# Altium footprint library SnapEDApcb.PcbLib: 1 footprints
Each footprint in its own frame and in the unit in brackets; x right, y up, seen from the top. Pads: shape width x height; smd on the part's side, far side on the other; paste and mask are expansions set on the pad; w line width, h text height; cw(c..) or ccw(c..) is an arc to the next point about the centre after c.
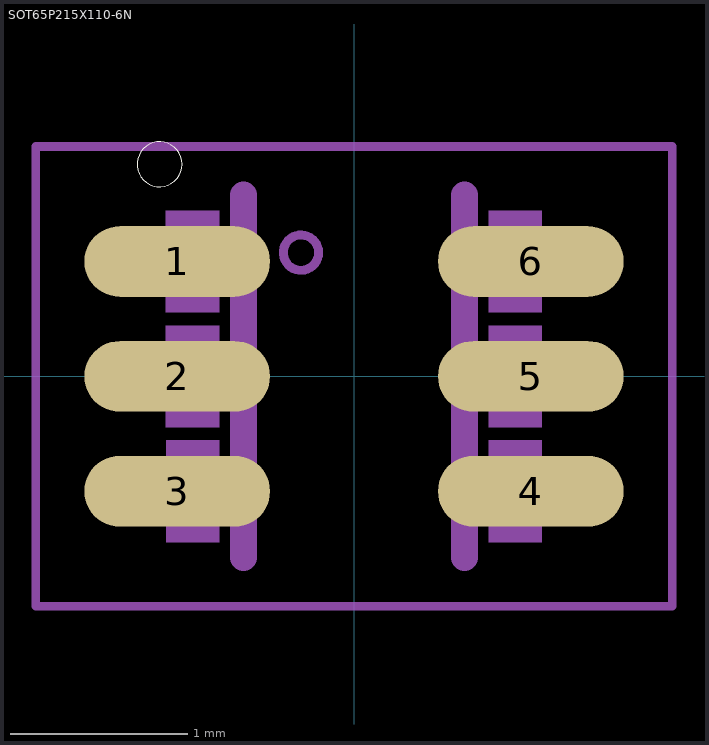
[diagram p0: the footprint, top view; thin cyan lines are the x and y axes]

## SOT65P215X110-6N [mm]
pads (6):
  oval 1.05x0.4 smd: 1(-1,0.65) 2(-1,0) 3(-1,-0.65) 4(1,-0.65) 5(1,0) 6(1,0.65)
Top Overlay:
  circle w0: c-1.1,1.2 r0.127
Mechanical 13:
  circle w0.05: c-0.3,0.7 r0.1
  region: -0.763,-0.288 -1.064,-0.288 -1.064,0.288 -0.763,0.288
  region: -0.763,0.363 -1.064,0.363 -1.064,0.937 -0.763,0.937
  region: -0.763,-0.938 -1.063,-0.938 -1.063,-0.363 -0.763,-0.363
  region: 1.062,-0.939 0.764,-0.939 0.764,-0.363 1.062,-0.363
  region: 1.062,-0.288 0.763,-0.288 0.763,0.288 1.062,0.288
  region: 1.062,0.363 0.763,0.363 0.763,0.937 1.062,0.937
  lines w0.152: -0.625,-1.025 -0.625,1.025 ; 0.625,-1.025 0.625,1.025
Mechanical 15:
  lines w0.05: -1.8,-1.3 1.8,-1.3 1.8,1.3 -1.8,1.3 -1.8,-1.3